# Altium footprint library MyPro.PcbLib: 22 footprints (part 1 of 2)
Each footprint in its own frame and in the unit in brackets; x right, y up, seen from the top. Pads: shape width x height; smd on the part's side, far side on the other; paste and mask are expansions set on the pad; w line width, h text height; cw(c..) or ccw(c..) is an arc to the next point about the centre after c.
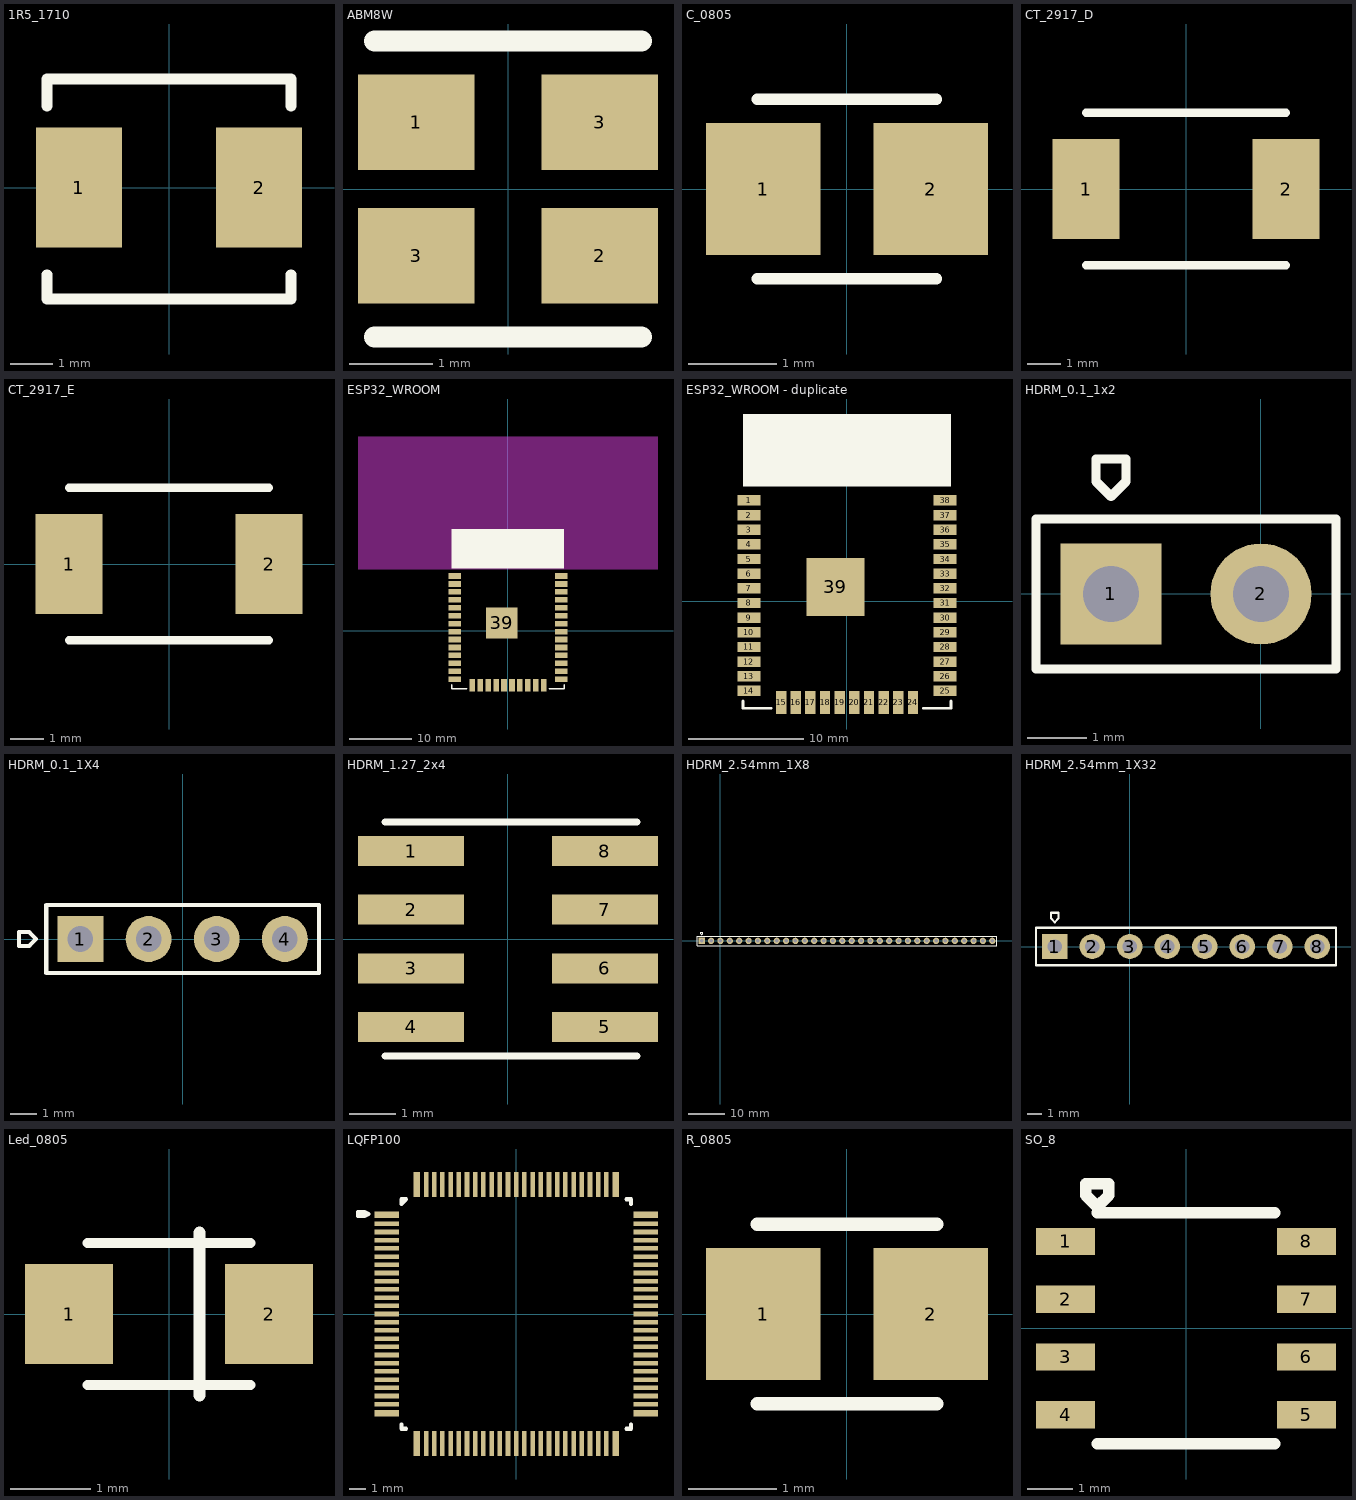
[diagram p0: the footprints below, top view; thin cyan lines are the x and y axes]

## 1R5_1710 [mm] "SRP5020TA Inductor"
pads (2):
  rect 2x2.8 smd: 1(-2.1,0) 2(2.1,0)
Top Overlay:
  lines w0.254: -2.85,-2.032 -2.85,-2.6 2.85,-2.6 2.85,-2.032 ; -2.85,1.905 -2.85,2.54 2.85,2.54 2.85,1.905
3D body "User Library-SRP-5030 Inductor.step": height 2.65, standoff -0.15, extent -3,-2.85 3,2.85

## ABM8W [mm] "Crystal"
pads (4):
  rect 1.4x1.15 smd: 1(-1.1,0.8) 2(1.1,-0.8) 3(-1.1,-0.8) 3(1.1,0.8)
Top Overlay:
  lines w0.254: -1.6,-1.778 1.6,-1.778 ; -1.6,1.778 1.6,1.778
3D body "User Library-ABM8.step": height 0.75, standoff -0.01, extent -1.6,-1.25 1.6,1.25

## C_0805 [mm] "MLCC Chip Capacitor"
pads (2):
  rect 1.3x1.5 smd: 1(-0.95,0) 2(0.95,0)
Top Overlay:
  lines w0.127: -1.016,-1.016 1.016,-1.016 ; -1.016,1.016 1.016,1.016
3D body "User Library-0805 SMD Capacitor.STEP": height 0.78, standoff 0, extent -1,-0.625 1,0.625
3D body: height 0.25, standoff 0, extent -1.524,0.889 -1.524,0.889

## CT_2917_D [mm] "Capacitor Tantalum AVX D Case"
pads (2):
  rect 2x3 smd: 1(-3,0) 2(3,0)
Top Overlay:
  lines w0.254: -3,-2.286 3,-2.286 ; -3,2.286 3,2.286
3D body "User Library-AVX_D_CASE.step": height 3.01, standoff 0, extent -3.7,-2.225 3.7,2.225

## CT_2917_E [mm] "Capacitor Tantalum AVX E Case"
pads (2):
  rect 2x3 smd: 1(-3,0) 2(3,0)
Top Overlay:
  lines w0.254: -3,-2.286 3,-2.286 ; -3,2.286 3,2.286
3D body "User Library-AVX_E_CASE.step": height 4.2, standoff 0, extent -3.7,-2.225 3.7,2.225

## ESP32_WROOM [mm]
pads (39):
  rect 2x0.9 smd: 1(-8.5,8.755) 2(-8.5,7.485) 3(-8.5,6.215) 4(-8.5,4.945) 5(-8.5,3.675) 6(-8.5,2.405) 7(-8.5,1.135) 8(-8.5,-0.135) 9(-8.5,-1.405) 10(-8.5,-2.675) 11(-8.5,-3.945) 12(-8.5,-5.215) 13(-8.5,-6.485) 14(-8.5,-7.755) 25(8.5,-7.755) 26(8.5,-6.485) 27(8.5,-5.215) 28(8.5,-3.945) 29(8.5,-2.675) 30(8.5,-1.405) 31(8.5,-0.135) 32(8.5,1.135) 33(8.5,2.405) 34(8.5,3.675) 35(8.5,4.945) 36(8.5,6.215) 37(8.5,7.485) 38(8.5,8.755)
  rect 0.9x2 smd: 15(-5.715,-8.755) 16(-4.445,-8.755) 17(-3.175,-8.755) 18(-1.905,-8.755) 19(-0.635,-8.755) 20(0.635,-8.755) 21(1.905,-8.755) 22(3.175,-8.755) 23(4.445,-8.755) 24(5.715,-8.755)
  rect 5x5 smd: 39(-1,1.255)
Top Overlay:
  rectangle: -9,9.945 9,16.245
  lines w0.254: -9,-8.644 -9,-9.255 -6.595,-9.255 ; 6.613,-9.255 9,-9.255 9,-8.644
Keep-Out Layer:
  rectangle: -23.997,9.815 24.003,31.115
3D body "User Library-esp-wroom-32.step": height 3, standoff -0.04, extent -9.07,-9.255 9,16.285

## ESP32_WROOM - duplicate [mm]
pads (39):
  rect 2x0.9 smd mask+0.102: 1(-8.5,8.755) 2(-8.5,7.485) 3(-8.5,6.215) 4(-8.5,4.945) 5(-8.5,3.675) 6(-8.5,2.405) 7(-8.5,1.135) 8(-8.5,-0.135) 9(-8.5,-1.405) 10(-8.5,-2.675) 11(-8.5,-3.945) 12(-8.5,-5.215) 13(-8.5,-6.485) 14(-8.5,-7.755) 25(8.5,-7.755) 26(8.5,-6.485) 27(8.5,-5.215) 28(8.5,-3.945) 29(8.5,-2.675) 30(8.5,-1.405) 31(8.5,-0.135) 32(8.5,1.135) 33(8.5,2.405) 34(8.5,3.675) 35(8.5,4.945) 36(8.5,6.215) 37(8.5,7.485) 38(8.5,8.755)
  rect 0.9x2 smd mask+0.102: 15(-5.715,-8.755) 16(-4.445,-8.755) 17(-3.175,-8.755) 18(-1.905,-8.755) 19(-0.635,-8.755) 20(0.635,-8.755) 21(1.905,-8.755) 22(3.175,-8.755) 23(4.445,-8.755) 24(5.715,-8.755)
  rect 5x5 smd: 39(-1,1.255)
Top Overlay:
  rectangle: -9,9.945 9,16.245
  lines w0.254: -9,-8.644 -9,-9.255 -6.595,-9.255 ; 6.613,-9.255 9,-9.255 9,-8.644
3D body "User Library-esp-wroom-32.step": height 3, standoff -0.04, extent -9.07,-9.255 9,16.285

## HDRM_0.1_1x2 [mm]
pads (2):
  rect 1.71x1.71 hole 0.95: 1(-2.54,0)
  round 1.71 hole 0.95: 2(0,0)
Top Overlay:
  lines w0.152: -3.81,-1.27 -3.81,1.27 1.27,1.27 1.27,-1.27 -3.81,-1.27 ; -2.794,1.905 -2.794,2.286 -2.286,2.286 -2.286,1.905 -2.54,1.651 -2.794,1.905

## HDRM_0.1_1X4 [mm] "Header Male 100mils 4 pins"
pads (4):
  rect 1.71x1.71 hole 0.95: 1(-3.81,0)
  round 1.71 hole 0.95: 2(-1.27,0) 3(1.27,0) 4(3.81,0)
Top Overlay:
  lines w0.152: -6.096,-0.254 -6.096,0.254 -5.715,0.254 -5.461,0 -5.715,-0.254 -6.096,-0.254 ; -5.08,-1.27 -5.08,1.27 5.08,1.27 5.08,-1.27 -5.08,-1.27
3D body "User Library-1x4 TH Pitch 2_54mm.STEP": height 9.2, standoff -3.5, extent -5.08,-1.27 5.08,1.27

## HDRM_1.27_2x4 [mm] "Pin Header RM1.27 2x4 Male"
pads (8):
  rect 2.3x0.65 smd: 1(-2.1,1.905) 2(-2.1,0.635) 3(-2.1,-0.635) 4(-2.1,-1.905) 5(2.1,-1.905) 6(2.1,-0.635) 7(2.1,0.635) 8(2.1,1.905)
Top Overlay:
  lines w0.152: -2.667,-2.54 -1.302,-2.54 1.429,-2.54 2.794,-2.54 ; -2.667,2.54 -1.302,2.54 1.429,2.54 2.794,2.54
3D body "User Library-RM127_8pin_Header.step": height 4.5, standoff 0, extent -2.701,-2.532 2.799,2.548

## HDRM_2.54mm_1X8 [mm]
pads (32):
  rect 1.71x1.71 hole 0.95: 1(-5.08,0)
  round 1.71 hole 0.95: 2(-2.54,0) 3(0,0) 4(2.54,0) 5(5.08,0) 6(7.62,0) 7(10.16,0) 8(12.7,0) 9(15.24,0) 10(17.78,0) 11(20.32,0) 12(22.86,0) 13(25.4,0) 14(27.94,0) 15(30.48,0) 16(33.02,0) 17(35.56,0) 18(38.1,0) 19(40.64,0) 20(43.18,0) 21(45.72,0) 22(48.26,0) 23(50.8,0) 24(53.34,0) 25(55.88,0) 26(58.42,0) 27(60.96,0) 28(63.5,0) 29(66.04,0) 30(68.58,0) 31(71.12,0) 32(73.66,0)
Top Overlay:
  lines w0.152: -6.35,-1.27 -6.35,1.27 13.97,1.27 34.29,1.27 54.61,1.27 74.93,1.27 74.93,-1.27 54.61,-1.27 34.29,-1.27 13.97,-1.27 -6.35,-1.27 ; -5.334,1.905 -5.334,2.286 -4.826,2.286 -4.826,1.905 -5.08,1.651 -5.334,1.905
3D body "User Library-1x4 TH Pitch 2_54mm.STEP": height 9.2, standoff -3.5, extent -6.35,-1.27 3.81,1.27
3D body "User Library-1x4 TH Pitch 2_54mm.STEP": height 9.2, standoff -3.5, extent 3.81,-1.27 13.97,1.27
3D body "User Library-1x4 TH Pitch 2_54mm.STEP": height 9.2, standoff -3.5, extent 13.97,-1.27 24.13,1.27
3D body "User Library-1x4 TH Pitch 2_54mm.STEP": height 9.2, standoff -3.5, extent 24.13,-1.27 34.29,1.27
3D body "User Library-1x4 TH Pitch 2_54mm.STEP": height 9.2, standoff -3.5, extent 34.29,-1.27 44.45,1.27
3D body "User Library-1x4 TH Pitch 2_54mm.STEP": height 9.2, standoff -3.5, extent 44.45,-1.27 54.61,1.27
3D body "User Library-1x4 TH Pitch 2_54mm.STEP": height 9.2, standoff -3.5, extent 54.61,-1.27 64.77,1.27
3D body "User Library-1x4 TH Pitch 2_54mm.STEP": height 9.2, standoff -3.5, extent 64.77,-1.27 74.93,1.27

## HDRM_2.54mm_1X32 [mm]
pads (8):
  rect 1.71x1.71 hole 0.95: 1(-5.08,0)
  round 1.71 hole 0.95: 2(-2.54,0) 3(0,0) 4(2.54,0) 5(5.08,0) 6(7.62,0) 7(10.16,0) 8(12.7,0)
Top Overlay:
  lines w0.152: -6.35,-1.27 -6.35,1.27 13.97,1.27 13.97,-1.27 -6.35,-1.27 ; -5.334,1.905 -5.334,2.286 -4.826,2.286 -4.826,1.905 -5.08,1.651 -5.334,1.905
3D body "User Library-1x4 TH Pitch 2_54mm.STEP": height 9.2, standoff -3.5, extent -6.35,-1.27 3.81,1.27
3D body "User Library-1x4 TH Pitch 2_54mm.STEP": height 9.2, standoff -3.5, extent 3.81,-1.27 13.97,1.27

## Led_0805 [mm] "SMD LED"
pads (2):
  rect 1.1x1.25 smd: 1(-1.25,0) 2(1.25,0)
Top Overlay:
  lines w0.127: -1.016,-0.889 1.016,-0.889 ; -1.016,0.889 1.016,0.889
  lines w0.152: 0.381,-1.016 0.381,1.016 0.381,0.635
3D body "User Library-LED SMD0805.STEP": height 0.85, standoff 0.01, extent -1.021,-0.46 1.041,0.447

## LQFP100 [mm]
pads (100):
  rect 1.5x0.4 smd: 1(-7.9,6.06) 25(-7.9,-6.06) 51(7.9,-6.06) 75(7.9,6.06)
  rect 1.5x0.28 smd: 2(-7.9,5.5) 3(-7.9,5) 4(-7.9,4.5) 5(-7.9,4) 6(-7.9,3.5) 7(-7.9,3) 8(-7.9,2.5) 9(-7.9,2) 10(-7.9,1.5) 11(-7.9,1) 12(-7.9,0.5) 13(-7.9,0) 14(-7.9,-0.5) 15(-7.9,-1) 16(-7.9,-1.5) 17(-7.9,-2) 18(-7.9,-2.5) 19(-7.9,-3) 20(-7.9,-3.5) 21(-7.9,-4) 22(-7.9,-4.5) 23(-7.9,-5) 24(-7.9,-5.5) 52(7.9,-5.5) 53(7.9,-5) 54(7.9,-4.5) 55(7.9,-4) 56(7.9,-3.5) 57(7.9,-3) 58(7.9,-2.5) 59(7.9,-2) 60(7.9,-1.5) 61(7.9,-1) 62(7.9,-0.5) 63(7.9,0) 64(7.9,0.5) 65(7.9,1) 66(7.9,1.5) 67(7.9,2) 68(7.9,2.5) 69(7.9,3) 70(7.9,3.5) 71(7.9,4) 72(7.9,4.5) 73(7.9,5) 74(7.9,5.5)
  rect 0.4x1.5 smd: 26(-6.06,-7.9) 50(6.06,-7.9) 76(6.06,7.9) 100(-6.06,7.9)
  rect 0.28x1.5 smd: 27(-5.5,-7.9) 28(-5,-7.9) 29(-4.5,-7.9) 30(-4,-7.9) 31(-3.5,-7.9) 32(-3,-7.9) 33(-2.5,-7.9) 34(-2,-7.9) 35(-1.5,-7.9) 36(-1,-7.9) 37(-0.5,-7.9) 38(0,-7.9) 39(0.5,-7.9) 40(1,-7.9) 41(1.5,-7.9) 42(2,-7.9) 43(2.5,-7.9) 44(3,-7.9) 45(3.5,-7.9) 46(4,-7.9) 47(4.5,-7.9) 48(5,-7.9) 49(5.5,-7.9) 77(5.5,7.9) 78(5,7.9) 79(4.5,7.9) 80(4,7.9) 81(3.5,7.9) 82(3,7.9) 83(2.5,7.9) 84(2,7.9) 85(1.5,7.9) 86(1,7.9) 87(0.5,7.9) 88(0,7.9) 89(-0.5,7.9) 90(-1,7.9) 91(-1.5,7.9) 92(-2,7.9) 93(-2.5,7.9) 94(-3,7.9) 95(-3.5,7.9) 96(-4,7.9) 97(-4.5,7.9) 98(-5,7.9) 99(-5.5,7.9)
Top Overlay:
  lines w0.254: -7,-6.731 -7,-7 -6.716,-7 ; 6.731,-7 7,-7 7,-6.731 ; 6.731,7 7,7 7,6.716 ; -9.652,5.969 -9.271,5.969 -9.017,6.096 -9.271,6.223 -9.652,6.223 -9.652,5.969 ; -7,6.716 -7,7 -6.716,7 -7,6.716
3D body "User Library-LQFP100_Grid_0_5.STEP": height 1.6, standoff 0, extent -8,-8 8,8

## R_0805 [mm] "MLCC Chip Resistor"
pads (2):
  rect 1.3x1.5 smd: 1(-0.95,0) 2(0.95,0)
Top Overlay:
  lines w0.152: -1.016,-1.016 1.016,-1.016 ; -1.016,1.016 1.016,1.016
3D body: height 0.63, standoff -0.63, extent 0,0 0,0
3D body "CircuitWorks-RESISTOR 0805.STEP": height 0.43, standoff -0.03, extent -1,-0.63 1,0.63

## SO_8 [mm] "SOT96-1 (NXP)"
pads (8):
  rect 1.3x0.6 smd: 1(-2.65,1.905) 2(-2.65,0.635) 3(-2.65,-0.635) 4(-2.65,-1.905) 5(2.65,-1.905) 6(2.65,-0.635) 7(2.65,0.635) 8(2.65,1.905)
Top Overlay:
  lines w0.254: -1.95,-2.54 1.95,-2.54 ; -1.95,2.54 -0.975,2.54 0.975,2.54 1.95,2.54 ; -2.204,2.921 -1.95,2.667 -1.696,2.921 -1.696,3.175 -2.204,3.175 -2.204,2.921
3D body "User Library-so8.step": height 1.6, standoff -0.07, extent -3.023,-2.45 3.023,2.45